# Altium footprint library PCB - SPECIALISEDSENSOR - TE HPP845E031R4.PCBLIB: 1 footprints
Each footprint in its own frame and in the unit in brackets; x right, y up, seen from the top. Pads: shape width x height; smd on the part's side, far side on the other; paste and mask are expansions set on the pad; w line width, h text height; cw(c..) or ccw(c..) is an arc to the next point about the centre after c.
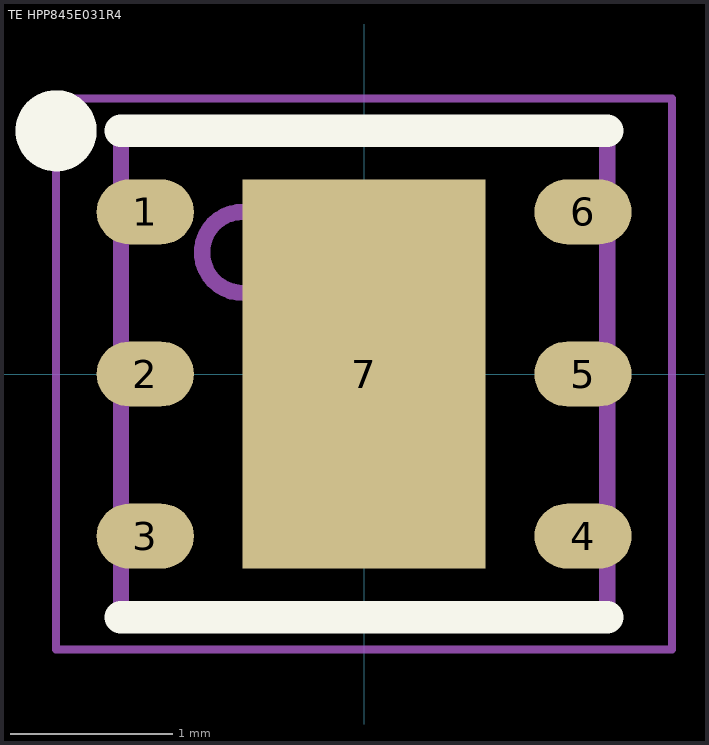
[diagram p0: the footprint, top view; thin cyan lines are the x and y axes]

## TE HPP845E031R4 [mm] "SMT, 6-Leads, Body 3.0x3.0mm, Pitch 1.0mm, IPC Medium Density"
height 1
pads (7):
  oval 0.6x0.4 smd: 1(-1.35,1) 2(-1.35,0) 3(-1.35,-1) 5(1.35,0) 6(1.35,1)
  oval 0.6x0.4 smd paste+0: 4(1.35,-1)
  rect 1.5x2.4 smd: 7(0,0)
Top Overlay:
  circle w0.25: c-1.9,1.5 r0.125
  lines w0.2: -1.5,-1.5 1.5,-1.5 ; -1.5,1.5 1.5,1.5
Mechanical 13:
  circle w0.1: c-0.75,0.75 r0.25
  lines w0.1: -1.5,-1.5 1.5,-1.5 1.5,1.5 -1.5,1.5 -1.5,-1.5
Mechanical 15:
  lines w0.05: -1.9,-1.7 -1.9,1.7 1.9,1.7 1.9,-1.7 -1.9,-1.7
  lines w0.1: -0.5,0 0.5,0 ; 0,-0.5 0,0.5
3D body "TE - HPP845E031R4.step": height 0.9, standoff 0, extent -1.5,-1.5 1.5,1.5